# EAGLE library part L01-1,6VA (library trafo-alfamag)
TOROID TRANSFORMER
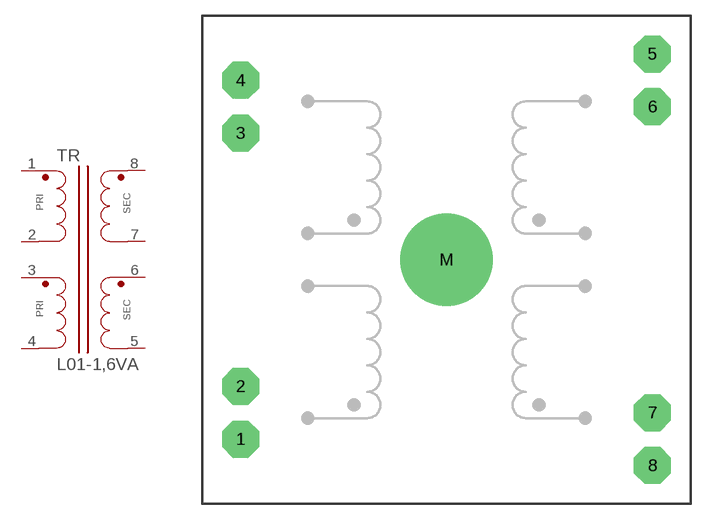
[diagram p8: symbol with the pads of L01-1,6VA; footprint L01-1,6VA]

Designator prefix TR

## L01-1,6VA  [L01-1,6VA]
1  1  pas
2  2  pas
3  3  pas
4  4  pas
5  5  pas
6  6  pas
7  7  pas
8  8  pas

## Footprint L01-1,6VA (pad centres in mm)
TOROID TRANSFORMER L x W x H = 39.6 x 39.6 x 18.5 mm X x Y = 35.56 x 35.56 mm
drill 1.422 pad 3.556 octagon: 1 -19.8,-17.26; 2 -19.8,-12.18; 3 -19.8,12.18; 4 -19.8,17.26; 5 19.8,19.8; 6 19.8,14.72; 7 19.8,-14.72; 8 19.8,-19.8
drill 4.699 pad 8.89: M 0,0